# Altium footprint library solomon-systech.PCBLIB: 2 footprints
Each footprint in its own frame and in the unit in brackets; x right, y up, seen from the top. Pads: shape width x height; smd on the part's side, far side on the other; paste and mask are expansions set on the pad; w line width, h text height; cw(c..) or ccw(c..) is an arc to the next point about the centre after c.
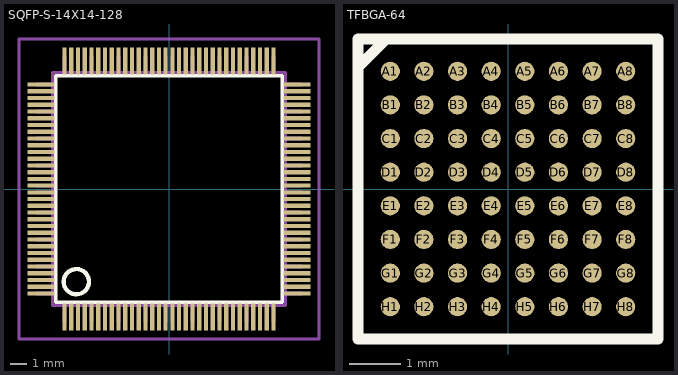
[diagram p0: the footprints below, top view; thin cyan lines are the x and y axes]

## SQFP-S-14X14-128 [mm]
pads (128):
  rect 0.25x1.6 smd: 1(-6.2,-7.6) 2(-5.8,-7.6) 3(-5.4,-7.6) 4(-5,-7.6) 5(-4.6,-7.6) 6(-4.2,-7.6) 7(-3.8,-7.6) 8(-3.4,-7.6) 9(-3,-7.6) 10(-2.6,-7.6) 11(-2.2,-7.6) 12(-1.8,-7.6) 13(-1.4,-7.6) 14(-1,-7.6) 15(-0.6,-7.6) 16(-0.2,-7.6) 17(0.2,-7.6) 18(0.6,-7.6) 19(1,-7.6) 20(1.4,-7.6) 21(1.8,-7.6) 22(2.2,-7.6) 23(2.6,-7.6) 24(3,-7.6) 25(3.4,-7.6) 26(3.8,-7.6) 27(4.2,-7.6) 28(4.6,-7.6) 29(5,-7.6) 30(5.4,-7.6) 31(5.8,-7.6) 32(6.2,-7.6) 65(6.2,7.6) 66(5.8,7.6) 67(5.4,7.6) 68(5,7.6) 69(4.6,7.6) 70(4.2,7.6) 71(3.8,7.6) 72(3.4,7.6) 73(3,7.6) 74(2.6,7.6) 75(2.2,7.6) 76(1.8,7.6) 77(1.4,7.6) 78(1,7.6) 79(0.6,7.6) 80(0.2,7.6) 81(-0.2,7.6) 82(-0.6,7.6) 83(-1,7.6) 84(-1.4,7.6) 85(-1.8,7.6) 86(-2.2,7.6) 87(-2.6,7.6) 88(-3,7.6) 89(-3.4,7.6) 90(-3.8,7.6) 91(-4.2,7.6) 92(-4.6,7.6) 93(-5,7.6) 94(-5.4,7.6) 95(-5.8,7.6) 96(-6.2,7.6)
  rect 1.6x0.25 smd: 33(7.6,-6.2) 34(7.6,-5.8) 35(7.6,-5.4) 36(7.6,-5) 37(7.6,-4.6) 38(7.6,-4.2) 39(7.6,-3.8) 40(7.6,-3.4) 41(7.6,-3) 42(7.6,-2.6) 43(7.6,-2.2) 44(7.6,-1.8) 45(7.6,-1.4) 46(7.6,-1) 47(7.6,-0.6) 48(7.6,-0.2) 49(7.6,0.2) 50(7.6,0.6) 51(7.6,1) 52(7.6,1.4) 53(7.6,1.8) 54(7.6,2.2) 55(7.6,2.6) 56(7.6,3) 57(7.6,3.4) 58(7.6,3.8) 59(7.6,4.2) 60(7.6,4.6) 61(7.6,5) 62(7.6,5.4) 63(7.6,5.8) 64(7.6,6.2) 97(-7.6,6.2) 98(-7.6,5.8) 99(-7.6,5.4) 100(-7.6,5) 101(-7.6,4.6) 102(-7.6,4.2) 103(-7.6,3.8) 104(-7.6,3.4) 105(-7.6,3) 106(-7.6,2.6) 107(-7.6,2.2) 108(-7.6,1.8) 109(-7.6,1.4) 110(-7.6,1) 111(-7.6,0.6) 112(-7.6,0.2) 113(-7.6,-0.2) 114(-7.6,-0.6) 115(-7.6,-1) 116(-7.6,-1.4) 117(-7.6,-1.8) 118(-7.6,-2.2) 119(-7.6,-2.6) 120(-7.6,-3) 121(-7.6,-3.4) 122(-7.6,-3.8) 123(-7.6,-4.2) 124(-7.6,-4.6) 125(-7.6,-5) 126(-7.6,-5.4) 127(-7.6,-5.8) 128(-7.6,-6.2)
Top Overlay:
  circle w0.254: c-5.5,-5.5 r0.75
  lines w0.203: -6.72,-6.71 6.71,-6.71 6.71,6.71 -6.72,6.71 -6.72,-6.71
Mechanical 16:
  rectangle: -6.31,-7.9 -6.09,-6.95
  rectangle: -5.91,-7.9 -5.69,-6.95
  rectangle: -5.51,-7.9 -5.29,-6.95
  rectangle: -5.11,-7.9 -4.89,-6.95
  rectangle: -4.71,-7.9 -4.49,-6.95
  rectangle: -4.31,-7.9 -4.09,-6.95
  rectangle: -3.91,-7.9 -3.69,-6.95
  rectangle: -3.51,-7.9 -3.29,-6.95
  rectangle: -3.11,-7.9 -2.89,-6.95
  rectangle: -2.71,-7.9 -2.49,-6.95
  rectangle: -2.31,-7.9 -2.09,-6.95
  rectangle: -1.91,-7.9 -1.69,-6.95
  rectangle: -1.51,-7.9 -1.29,-6.95
  rectangle: -1.11,-7.9 -0.89,-6.95
  rectangle: -0.71,-7.9 -0.49,-6.95
  rectangle: -0.31,-7.9 -0.09,-6.95
  rectangle: 0.09,-7.9 0.31,-6.95
  rectangle: 0.49,-7.9 0.71,-6.95
  rectangle: 0.89,-7.9 1.11,-6.95
  rectangle: 1.29,-7.9 1.51,-6.95
  rectangle: 1.69,-7.9 1.91,-6.95
  rectangle: 2.09,-7.9 2.31,-6.95
  rectangle: 2.49,-7.9 2.71,-6.95
  rectangle: 2.89,-7.9 3.11,-6.95
  rectangle: 3.29,-7.9 3.51,-6.95
  rectangle: 3.69,-7.9 3.91,-6.95
  rectangle: 4.09,-7.9 4.31,-6.95
  rectangle: 4.49,-7.9 4.71,-6.95
  rectangle: 4.89,-7.9 5.11,-6.95
  rectangle: 5.29,-7.9 5.51,-6.95
  rectangle: 5.69,-7.9 5.91,-6.95
  rectangle: 6.09,-7.9 6.31,-6.95
  rectangle: 6.95,-6.31 7.9,-6.09
  rectangle: 6.95,-5.91 7.9,-5.69
  rectangle: 6.95,-5.51 7.9,-5.29
  rectangle: 6.95,-5.11 7.9,-4.89
  rectangle: 6.95,-4.71 7.9,-4.49
  rectangle: 6.95,-4.31 7.9,-4.09
  rectangle: 6.95,-3.91 7.9,-3.69
  rectangle: 6.95,-3.51 7.9,-3.29
  rectangle: 6.95,-3.11 7.9,-2.89
  rectangle: 6.95,-2.71 7.9,-2.49
  rectangle: 6.95,-2.31 7.9,-2.09
  rectangle: 6.95,-1.91 7.9,-1.69
  rectangle: 6.95,-1.51 7.9,-1.29
  rectangle: 6.95,-1.11 7.9,-0.89
  rectangle: 6.95,-0.71 7.9,-0.49
  rectangle: 6.95,-0.31 7.9,-0.09
  rectangle: 6.95,0.09 7.9,0.31
  rectangle: 6.95,0.49 7.9,0.71
  rectangle: 6.95,0.89 7.9,1.11
  rectangle: 6.95,1.29 7.9,1.51
  rectangle: 6.95,1.69 7.9,1.91
  rectangle: 6.95,2.09 7.9,2.31
  rectangle: 6.95,2.49 7.9,2.71
  rectangle: 6.95,2.89 7.9,3.11
  rectangle: 6.95,3.29 7.9,3.51
  rectangle: 6.95,3.69 7.9,3.91
  rectangle: 6.95,4.09 7.9,4.31
  rectangle: 6.95,4.49 7.9,4.71
  rectangle: 6.95,4.89 7.9,5.11
  rectangle: 6.95,5.29 7.9,5.51
  rectangle: 6.95,5.69 7.9,5.91
  rectangle: 6.95,6.09 7.9,6.31
  rectangle: 6.09,6.95 6.31,7.9
  rectangle: 5.69,6.95 5.91,7.9
  rectangle: 5.29,6.95 5.51,7.9
  rectangle: 4.89,6.95 5.11,7.9
  rectangle: 4.49,6.95 4.71,7.9
  rectangle: 4.09,6.95 4.31,7.9
  rectangle: 3.69,6.95 3.91,7.9
  rectangle: 3.29,6.95 3.51,7.9
  rectangle: 2.89,6.95 3.11,7.9
  rectangle: 2.49,6.95 2.71,7.9
  rectangle: 2.09,6.95 2.31,7.9
  rectangle: 1.69,6.95 1.91,7.9
  rectangle: 1.29,6.95 1.51,7.9
  rectangle: 0.89,6.95 1.11,7.9
  rectangle: 0.49,6.95 0.71,7.9
  rectangle: 0.09,6.95 0.31,7.9
  rectangle: -0.31,6.95 -0.09,7.9
  rectangle: -0.71,6.95 -0.49,7.9
  rectangle: -1.11,6.95 -0.89,7.9
  rectangle: -1.51,6.95 -1.29,7.9
  rectangle: -1.91,6.95 -1.69,7.9
  rectangle: -2.31,6.95 -2.09,7.9
  rectangle: -2.71,6.95 -2.49,7.9
  rectangle: -3.11,6.95 -2.89,7.9
  rectangle: -3.51,6.95 -3.29,7.9
  rectangle: -3.91,6.95 -3.69,7.9
  rectangle: -4.31,6.95 -4.09,7.9
  rectangle: -4.71,6.95 -4.49,7.9
  rectangle: -5.11,6.95 -4.89,7.9
  rectangle: -5.51,6.95 -5.29,7.9
  rectangle: -5.91,6.95 -5.69,7.9
  rectangle: -6.31,6.95 -6.09,7.9
  rectangle: -7.9,6.09 -6.95,6.31
  rectangle: -7.9,5.69 -6.95,5.91
  rectangle: -7.9,5.29 -6.95,5.51
  rectangle: -7.9,4.89 -6.95,5.11
  rectangle: -7.9,4.49 -6.95,4.71
  rectangle: -7.9,4.09 -6.95,4.31
  rectangle: -7.9,3.69 -6.95,3.91
  rectangle: -7.9,3.29 -6.95,3.51
  rectangle: -7.9,2.89 -6.95,3.11
  rectangle: -7.9,2.49 -6.95,2.71
  rectangle: -7.9,2.09 -6.95,2.31
  rectangle: -7.9,1.69 -6.95,1.91
  rectangle: -7.9,1.29 -6.95,1.51
  rectangle: -7.9,0.89 -6.95,1.11
  rectangle: -7.9,0.49 -6.95,0.71
  rectangle: -7.9,0.09 -6.95,0.31
  rectangle: -7.9,-0.31 -6.95,-0.09
  rectangle: -7.9,-0.71 -6.95,-0.49
  rectangle: -7.9,-1.11 -6.95,-0.89
  rectangle: -7.9,-1.51 -6.95,-1.29
  rectangle: -7.9,-1.91 -6.95,-1.69
  rectangle: -7.9,-2.31 -6.95,-2.09
  rectangle: -7.9,-2.71 -6.95,-2.49
  rectangle: -7.9,-3.11 -6.95,-2.89
  rectangle: -7.9,-3.51 -6.95,-3.29
  rectangle: -7.9,-3.91 -6.95,-3.69
  rectangle: -7.9,-4.31 -6.95,-4.09
  rectangle: -7.9,-4.71 -6.95,-4.49
  rectangle: -7.9,-5.11 -6.95,-4.89
  rectangle: -7.9,-5.51 -6.95,-5.29
  rectangle: -7.9,-5.91 -6.95,-5.69
  rectangle: -7.9,-6.31 -6.95,-6.09
  lines w0.203: -6.91,-6.91 6.91,-6.91 6.91,6.91 -6.91,6.91 -6.91,-6.91
Mechanical 27:
  lines w0.2: -8.9,-8.9 -8.9,8.9 8.9,8.9 8.9,-8.9 -8.9,-8.9

## TFBGA-64 [mm]
pads (64):
  rrect100% 0.37x0.37 smd: A1(-2.275,2.275) A2(-1.625,2.275) A3(-0.975,2.275) A4(-0.325,2.275) A5(0.325,2.275) A6(0.975,2.275) A7(1.625,2.275) A8(2.275,2.275) B1(-2.275,1.625) B2(-1.625,1.625) B3(-0.975,1.625) B4(-0.325,1.625) B5(0.325,1.625) B6(0.975,1.625) B7(1.625,1.625) B8(2.275,1.625) C1(-2.275,0.975) C2(-1.625,0.975) C3(-0.975,0.975) C4(-0.325,0.975) C5(0.325,0.975) C6(0.975,0.975) C7(1.625,0.975) C8(2.275,0.975) D1(-2.275,0.325) D2(-1.625,0.325) D3(-0.975,0.325) D4(-0.325,0.325) D5(0.325,0.325) D6(0.975,0.325) D7(1.625,0.325) D8(2.275,0.325) E1(-2.275,-0.325) E2(-1.625,-0.325) E3(-0.975,-0.325) E4(-0.325,-0.325) E5(0.325,-0.325) E6(0.975,-0.325) E7(1.625,-0.325) E8(2.275,-0.325) F1(-2.275,-0.975) F2(-1.625,-0.975) F3(-0.975,-0.975) F4(-0.325,-0.975) F5(0.325,-0.975) F6(0.975,-0.975) F7(1.625,-0.975) F8(2.275,-0.975) G1(-2.275,-1.625) G2(-1.625,-1.625) G3(-0.975,-1.625) G4(-0.325,-1.625) G5(0.325,-1.625) G6(0.975,-1.625) G7(1.625,-1.625) G8(2.275,-1.625) H1(-2.275,-2.275) H2(-1.625,-2.275) H3(-0.975,-2.275) H4(-0.325,-2.275) H5(0.325,-2.275) H6(0.975,-2.275) H7(1.625,-2.275) H8(2.275,-2.275)
Top Overlay:
  lines w0.203: -2.898,2.35 -2.898,2.898 -2.35,2.898 ; -2.898,2.35 -2.898,-2.898 2.898,-2.898 2.898,2.898 -2.35,2.898 ; -2.898,2.35 -2.35,2.898
Top Solder:
  circle w0: c2.275,-2.275 r0.185
  circle w0: c1.625,-2.275 r0.185
  circle w0: c0.975,-2.275 r0.185
  circle w0: c0.325,-2.275 r0.185
  circle w0: c-0.325,-2.275 r0.185
  circle w0: c-0.975,-2.275 r0.185
  circle w0: c-1.625,-2.275 r0.185
  circle w0: c-2.275,-2.275 r0.185
  circle w0: c2.275,-1.625 r0.185
  circle w0: c1.625,-1.625 r0.185
  circle w0: c0.975,-1.625 r0.185
  circle w0: c0.325,-1.625 r0.185
  circle w0: c-0.325,-1.625 r0.185
  circle w0: c-0.975,-1.625 r0.185
  circle w0: c-1.625,-1.625 r0.185
  circle w0: c-2.275,-1.625 r0.185
  circle w0: c2.275,-0.975 r0.185
  circle w0: c1.625,-0.975 r0.185
  circle w0: c0.975,-0.975 r0.185
  circle w0: c0.325,-0.975 r0.185
  circle w0: c-0.325,-0.975 r0.185
  circle w0: c-0.975,-0.975 r0.185
  circle w0: c-1.625,-0.975 r0.185
  circle w0: c-2.275,-0.975 r0.185
  circle w0: c2.275,-0.325 r0.185
  circle w0: c1.625,-0.325 r0.185
  circle w0: c0.975,-0.325 r0.185
  circle w0: c0.325,-0.325 r0.185
  circle w0: c-0.325,-0.325 r0.185
  circle w0: c-0.975,-0.325 r0.185
  circle w0: c-1.625,-0.325 r0.185
  circle w0: c-2.275,-0.325 r0.185
  circle w0: c2.275,0.325 r0.185
  circle w0: c1.625,0.325 r0.185
  circle w0: c0.975,0.325 r0.185
  circle w0: c0.325,0.325 r0.185
  circle w0: c-0.325,0.325 r0.185
  circle w0: c-0.975,0.325 r0.185
  circle w0: c-1.625,0.325 r0.185
  circle w0: c-2.275,0.325 r0.185
  circle w0: c2.275,0.975 r0.185
  circle w0: c1.625,0.975 r0.185
  circle w0: c0.975,0.975 r0.185
  circle w0: c0.325,0.975 r0.185
  circle w0: c-0.325,0.975 r0.185
  circle w0: c-0.975,0.975 r0.185
  circle w0: c-1.625,0.975 r0.185
  circle w0: c-2.275,0.975 r0.185
  circle w0: c2.275,1.625 r0.185
  circle w0: c1.625,1.625 r0.185
  circle w0: c0.975,1.625 r0.185
  circle w0: c0.325,1.625 r0.185
  circle w0: c-0.325,1.625 r0.185
  circle w0: c-0.975,1.625 r0.185
  circle w0: c-1.625,1.625 r0.185
  circle w0: c-2.275,1.625 r0.185
  circle w0: c2.275,2.275 r0.185
  circle w0: c1.625,2.275 r0.185
  circle w0: c0.975,2.275 r0.185
  circle w0: c0.325,2.275 r0.185
  circle w0: c-0.325,2.275 r0.185
  circle w0: c-0.975,2.275 r0.185
  circle w0: c-1.625,2.275 r0.185
  circle w0: c-2.275,2.275 r0.185